# Altium schematic symbol library Components - 15.10.22 - 22.46.SchLib: 2 symbols
Pins are listed as number, name and electrical type; pins without a type are passive.

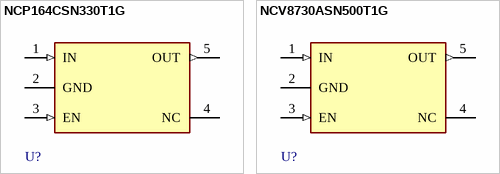
[diagram p0: symbols NCP164CSN330T1G to NCV8730ASN500T1G]

## NCP164CSN330T1G
designator U?
LDO Regulator TSOP-5
footprint FP-483-MFG
pins: 1 IN (in), 2 GND, 3 EN (in), 4 NC, 5 OUT (out)

## NCV8730ASN500T1G
designator U?
LDO Regulator TSOP-5
footprint FP-483-MFG
pins: 1 IN (in), 2 GND, 3 EN (in), 4 NC, 5 OUT (out)